# EAGLE library part DUAL-OP-AMP (library mille-feuille)
Dual OP Amp
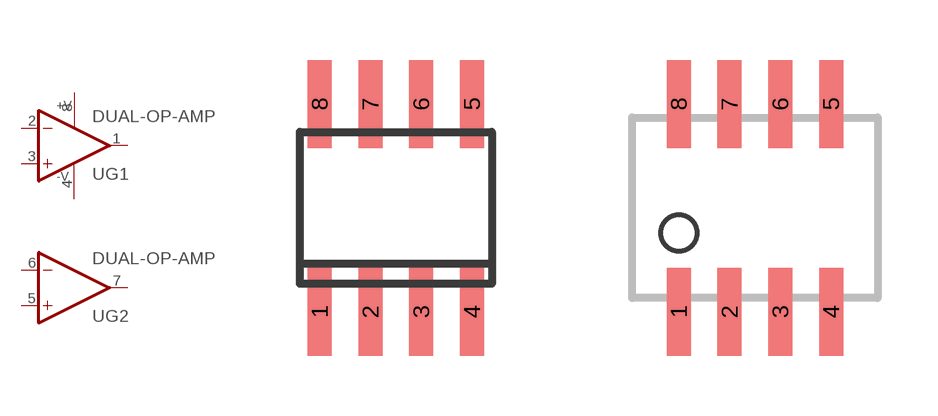
[diagram p9: symbol with the pads of SO-8; footprints SO-8, SOP8]

Designator prefix U; gates G1=OPAMP+- G2=OPAMP

## DUAL-OP-AMPSO  [SO-8]
1  G1:OUT  out
2  G1:-IN  in
3  G1:+IN  in
4  G1:V-  pwr
5  G2:+IN  in
6  G2:-IN  in
7  G2:OUT  out
8  G1:V+  pwr

## DUAL-OP-AMPSOP  [SOP8]
Pads as for SO-8

## Footprint SO-8 (pad centres in mm)
smd 0.6 x 2.2: 1 -1.905,-2.6; 2 -0.635,-2.6; 3 0.635,-2.6; 4 1.905,-2.6; 5 1.905,2.6; 6 0.635,2.6; 7 -0.635,2.6; 8 -1.905,2.6

## Footprint SOP8 (pad centres in mm)
smd 0.6 x 2.2: 1 -1.905,-2.6; 2 -0.635,-2.6; 3 0.635,-2.6; 4 1.905,-2.6; 5 1.905,2.6; 6 0.635,2.6; 7 -0.635,2.6; 8 -1.905,2.6